# EAGLE library part DSPIC33FJ256MC710 (library 33FJ256MC710)
100-PIN HIGH END DSPIC
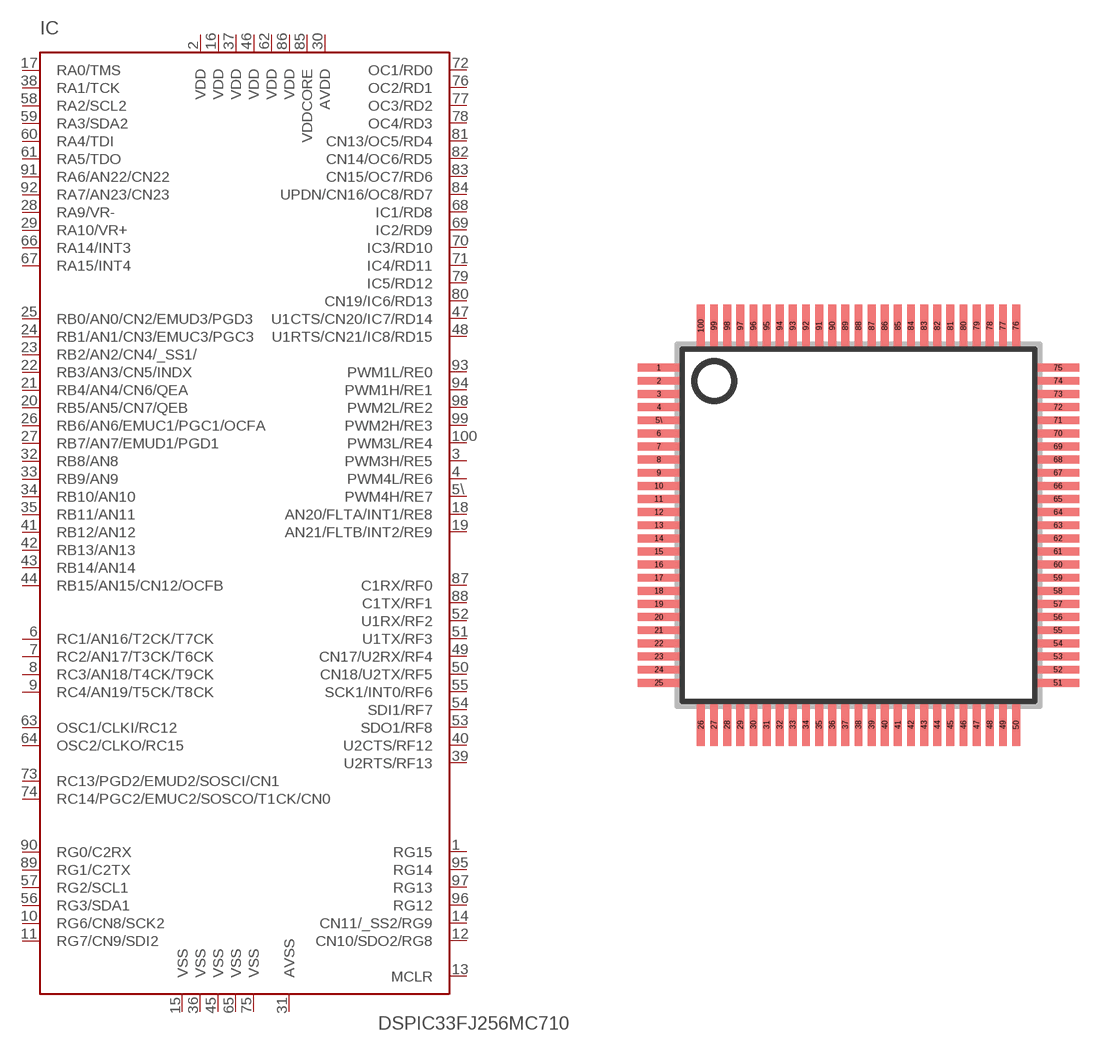
[diagram p0: symbol with the pads of TQFP-100; footprint TQFP-100]

Designator prefix IC

## DSPIC33FJ256MC710  [TQFP-100]
1  RG15
2  VDD  pwr
3  PWM3H/RE5
4  PWM4L/RE6
5\  PWM4H/RE7
6  RC1/AN16/T2CK/T7CK
7  RC2/AN17/T3CK/T6CK
8  RC3/AN18/T4CK/T9CK
9  RC4/AN19/T5CK/T8CK
10  RG6/CN8/SCK2
11  RG7/CN9/SDI2
12  CN10/SDO2/RG8
13  MCLR  in
14  CN11/_SS2/RG9
15  VSS  pwr
16  VDD  pwr
17  RA0/TMS
18  AN20/FLTA/INT1/RE8
19  AN21/FLTB/INT2/RE9
20  RB5/AN5/CN7/QEB
21  RB4/AN4/CN6/QEA
22  RB3/AN3/CN5/INDX
23  RB2/AN2/CN4/_SS1/
24  RB1/AN1/CN3/EMUC3/PGC3
25  RB0/AN0/CN2/EMUD3/PGD3
26  RB6/AN6/EMUC1/PGC1/OCFA
27  RB7/AN7/EMUD1/PGD1
28  RA9/VR-
29  RA10/VR+
30  AVDD  pwr
31  AVSS  pwr
32  RB8/AN8
33  RB9/AN9
34  RB10/AN10
35  RB11/AN11
36  VSS  pwr
37  VDD  pwr
38  RA1/TCK
39  U2RTS/RF13
40  U2CTS/RF12
41  RB12/AN12
42  RB13/AN13
43  RB14/AN14
44  RB15/AN15/CN12/OCFB
45  VSS  pwr
46  VDD  pwr
47  U1CTS/CN20/IC7/RD14
48  U1RTS/CN21/IC8/RD15
49  CN17/U2RX/RF4
50  CN18/U2TX/RF5
51  U1TX/RF3
52  U1RX/RF2
53  SDO1/RF8
54  SDI1/RF7
55  SCK1/INT0/RF6
56  RG3/SDA1
57  RG2/SCL1
58  RA2/SCL2
59  RA3/SDA2
60  RA4/TDI
61  RA5/TDO
62  VDD  pwr
63  OSC1/CLKI/RC12
64  OSC2/CLKO/RC15
65  VSS  pwr
66  RA14/INT3
67  RA15/INT4
68  IC1/RD8
69  IC2/RD9
70  IC3/RD10
71  IC4/RD11
72  OC1/RD0
73  RC13/PGD2/EMUD2/SOSCI/CN1
74  RC14/PGC2/EMUC2/SOSCO/T1CK/CN0
75  VSS  pwr
76  OC2/RD1
77  OC3/RD2
78  OC4/RD3
79  IC5/RD12
80  CN19/IC6/RD13
81  CN13/OC5/RD4
82  CN14/OC6/RD5
83  CN15/OC7/RD6
84  UPDN/CN16/OC8/RD7
85  VDDCORE  pwr
86  VDD  pwr
87  C1RX/RF0
88  C1TX/RF1
89  RG1/C2TX
90  RG0/C2RX
91  RA6/AN22/CN22
92  RA7/AN23/CN23
93  PWM1L/RE0
94  PWM1H/RE1
95  RG14
96  RG12
97  RG13
98  PWM2L/RE2
99  PWM2H/RE3
100  PWM3L/RE4

## Footprint TQFP-100 (pad centres in mm)
smd 1.6 x 0.3: 1 -2.52,0.92; 2 -2.52,0.42; 3 -2.52,-0.08; 4 -2.52,-0.58; 5\ -2.52,-1.08; 6 -2.52,-1.58; 7 -2.52,-2.08; 8 -2.52,-2.58; 9 -2.52,-3.08; 10 -2.52,-3.58; 11 -2.52,-4.08; 12 -2.52,-4.58; 13 -2.52,-5.08; 14 -2.52,-5.58; 15 -2.52,-6.08; 16 -2.52,-6.58; 17 -2.52,-7.08; 18 -2.52,-7.58; 19 -2.52,-8.08; 20 -2.52,-8.58; 21 -2.52,-9.08; 22 -2.52,-9.58; 23 -2.52,-10.08; 24 -2.52,-10.58; 25 -2.52,-11.08; 51 12.68,-11.08; 52 12.68,-10.58; 53 12.68,-10.08; 54 12.68,-9.58; 55 12.68,-9.08; 56 12.68,-8.58; 57 12.68,-8.08; 58 12.68,-7.58; 59 12.68,-7.08; 60 12.68,-6.58; 61 12.68,-6.08; 62 12.68,-5.58; 63 12.68,-5.08; 64 12.68,-4.58; 65 12.68,-4.08; 66 12.68,-3.58; 67 12.68,-3.08; 68 12.68,-2.58; 69 12.68,-2.08; 70 12.68,-1.58; 71 12.68,-1.08; 72 12.68,-0.58; 73 12.68,-0.08; 74 12.68,0.42; 75 12.68,0.92
smd 0.3 x 1.6: 26 -0.92,-12.68; 27 -0.42,-12.68; 28 0.08,-12.68; 29 0.58,-12.68; 30 1.08,-12.68; 31 1.58,-12.68; 32 2.08,-12.68; 33 2.58,-12.68; 34 3.08,-12.68; 35 3.58,-12.68; 36 4.08,-12.68; 37 4.58,-12.68; 38 5.08,-12.68; 39 5.58,-12.68; 40 6.08,-12.68; 41 6.58,-12.68; 42 7.08,-12.68; 43 7.58,-12.68; 44 8.08,-12.68; 45 8.58,-12.68; 46 9.08,-12.68; 47 9.58,-12.68; 48 10.08,-12.68; 49 10.58,-12.68; 50 11.08,-12.68; 76 11.08,2.52; 77 10.58,2.52; 78 10.08,2.52; 79 9.58,2.52; 80 9.08,2.52; 81 8.58,2.52; 82 8.08,2.52; 83 7.58,2.52; 84 7.08,2.52; 85 6.58,2.52; 86 6.08,2.52; 87 5.58,2.52; 88 5.08,2.52; 89 4.58,2.52; 90 4.08,2.52; 91 3.58,2.52; 92 3.08,2.52; 93 2.58,2.52; 94 2.08,2.52; 95 1.58,2.52; 96 1.08,2.52; 97 0.58,2.52; 98 0.08,2.52; 99 -0.42,2.52; 100 -0.92,2.52